# EAGLE library part 20_PIN_RECEPTACLE (library powercube)
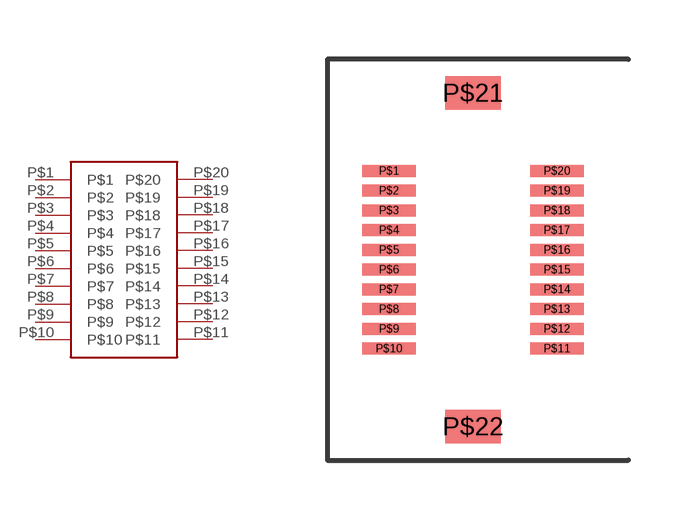
[diagram p5: symbol with the pads of 20_PIN_RECEPTACLE; footprint 20_PIN_RECEPTACLE]

Designator prefix -

## 20_PIN_RECEPTACLE  [20_PIN_RECEPTACLE]
P$1  P$1
P$2  P$2
P$3  P$3
P$4  P$4
P$5  P$5
P$6  P$6
P$7  P$7
P$8  P$8
P$9  P$9
P$10  P$10
P$11  P$11
P$12  P$12
P$13  P$13
P$14  P$14
P$15  P$15
P$16  P$16
P$17  P$17
P$18  P$18
P$19  P$19
P$20  P$20

## Footprint 20_PIN_RECEPTACLE (pad centres in mm)
smd 1.35 x 0.3: P$1 1.564,2.25; P$2 1.564,1.75; P$3 1.564,1.25; P$4 1.564,0.75; P$5 1.564,0.25; P$6 1.564,-0.25; P$7 1.564,-0.75; P$8 1.564,-1.25; P$9 1.564,-1.75; P$10 1.564,-2.25; P$11 5.814,-2.25; P$12 5.814,-1.75; P$13 5.814,-1.25; P$14 5.814,-0.75; P$15 5.814,-0.25; P$16 5.814,0.25; P$17 5.814,0.75; P$18 5.814,1.25; P$19 5.814,1.75; P$20 5.814,2.25
smd 1.4 x 0.85: P$21 3.689,4.225; P$22 3.689,-4.225